# Altium schematic symbol library 3v3.SchLib: 3 symbols
Pins are listed as number, name and electrical type; pins without a type are passive.

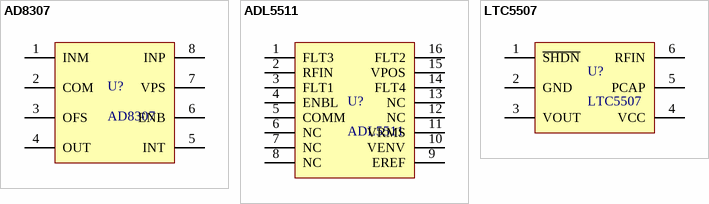
[diagram p0: symbols AD8307 to LTC5507]

## AD8307
designator U?
Low Cost, DC to 500 MHz, 92 dB  Logarithmic Amplifier
footprint SOIC8
pins: 1 INM, 2 COM, 3 OFS, 4 OUT, 5 INT, 6 ENB, 7 VPS, 8 INP

## ADL5511
designator U?
DC to 6 GHz  Envelope and TruPwr RMS Detector
footprint LFCSP-16-3X3
pins: 1 FLT3, 2 RFIN, 3 FLT1, 4 ENBL, 5 COMM, 6 NC, 7 NC, 8 NC, 9 EREF, 10 VENV, 11 VRMS, 12 NC, 13 NC, 14 FLT4, 15 VPOS, 16 FLT2

## LTC5507
designator U?
100kHz to 1GHz   RF Power Detector
footprint TSOT23-6
pins: 1 ~{SHDN}, 2 GND, 3 VOUT, 4 VCC, 5 PCAP, 6 RFIN